# Altium footprint library edgeconnector.PcbLib: 1 footprints
Each footprint in its own frame and in the unit in brackets; x right, y up, seen from the top. Pads: shape width x height; smd on the part's side, far side on the other; paste and mask are expansions set on the pad; w line width, h text height; cw(c..) or ccw(c..) is an arc to the next point about the centre after c.
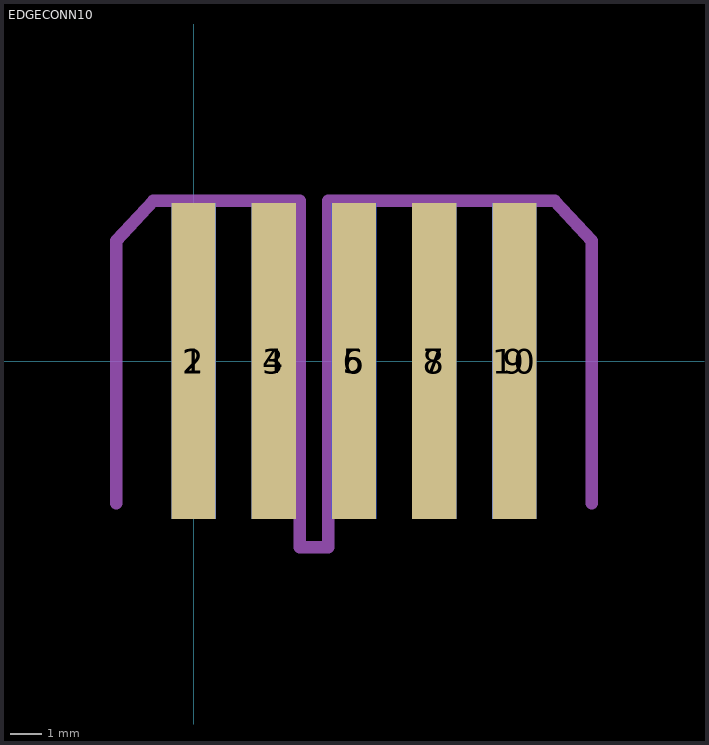
[diagram p0: the footprint, top view; thin cyan lines are the x and y axes]

## EDGECONN10 [mm]
pads (10):
  rect 1.4x10 smd: 1(0,0) 3(2.54,0) 5(5.08,0) 7(7.62,0) 9(10.16,0)
  rect 1.4x10 smd far side: 2(0,0) 4(2.54,0) 6(5.08,0) 8(7.62,0) 10(10.16,0)
Mechanical 1:
  lines w0.4: -2.45,-4.5 -2.45,3.81 -1.27,5.08 3.36,5.08 3.36,-5.9 4.26,-5.9 4.26,5.08 11.43,5.08 12.61,3.81 12.61,-4.5